# Altium schematic symbol library BQ27441-G1.Schlib: 1 symbol
Pins are listed as number, name and electrical type; pins without a type are passive.

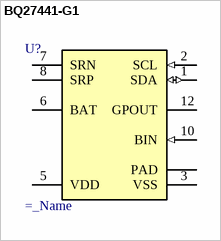
[diagram p0: symbol BQ27441-G1]

## BQ27441-G1
designator U?  (value not drawn)
=description; Value: =_Name
pins: 1 SDA (io), 2 SCL (in), 3 VSS (power), 5 VDD (power), 6 BAT (power), 7 SRN, 8 SRP, 10 BIN (in), 12 GPOUT (oc), PAD (power)